# Altium footprint library PcbLib2.PcbLib: 24 footprints (part 1 of 2)
Each footprint in its own frame and in the unit in brackets; x right, y up, seen from the top. Pads: shape width x height; smd on the part's side, far side on the other; paste and mask are expansions set on the pad; w line width, h text height; cw(c..) or ccw(c..) is an arc to the next point about the centre after c.
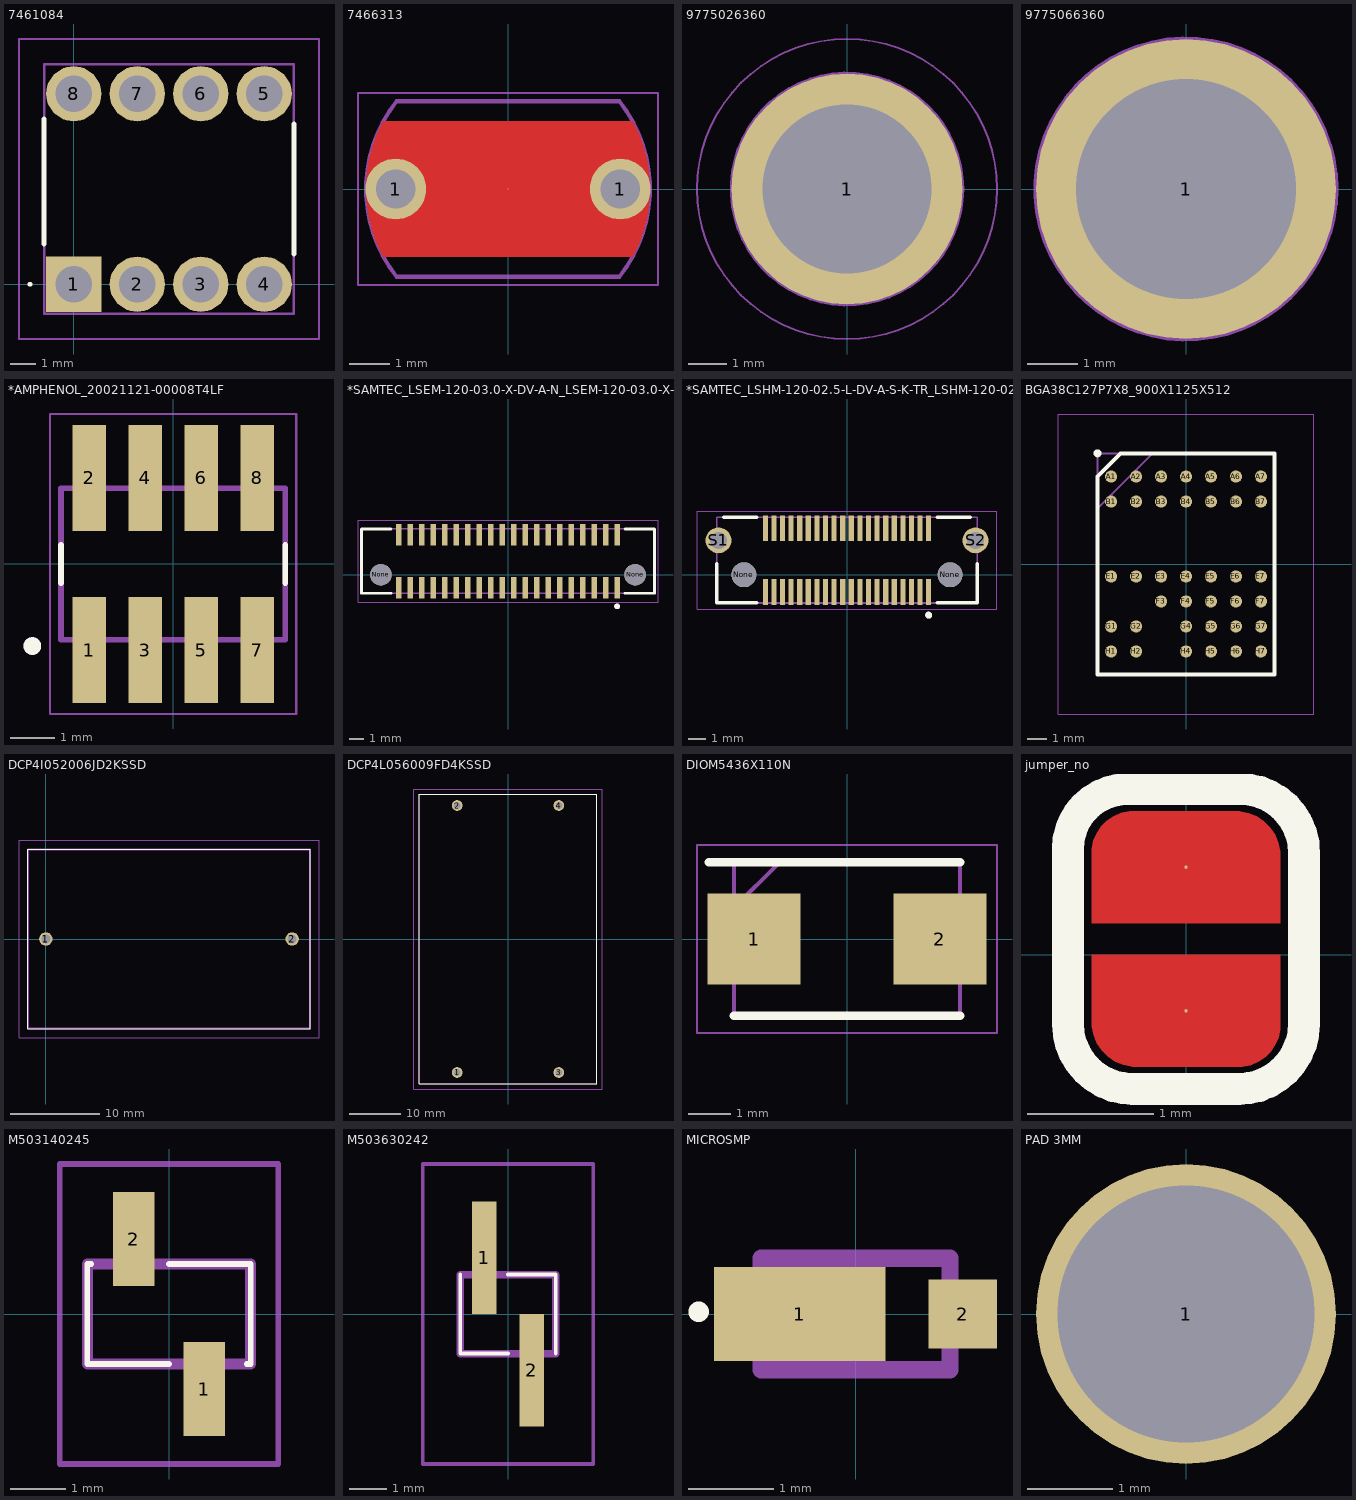
[diagram p0: the footprints below, top view; thin cyan lines are the x and y axes]

## 7461084 [mm]
height 3.6
pads (8):
  rect 2.213x2.213 hole 1.475: 1(0,0)
  round 2.213 hole 1.475: 2(2.54,0) 3(5.08,0) 4(7.62,0) 5(7.62,7.62) 6(5.08,7.62) 7(2.54,7.62) 8(0,7.62)
Top Overlay:
  lines w0.1: -1.8,0 ccw(c-1.75,0) -1.7,0 ccw(c-1.75,0) -1.8,0
  lines w0.2: -1.19,1.61 -1.19,6.61 ; 8.81,1.21 8.81,6.41
Top 3D Body:
  lines w0.1: -1.19,-1.19 8.81,-1.19 8.81,8.81 -1.19,8.81 -1.19,-1.19
Top Courtyard:
  lines w0.1: -2.19,-2.19 9.81,-2.19 9.81,9.81 -2.19,9.81 -2.19,-2.19
3D body "7461084.stp": height 12.86, standoff -4.14, extent -1.19,-1.19 8.81,8.81

## 7466313 [mm] "SMD Terminal Right Angled with Pins, Thread M3, Length 5.5mm"
height 7
pads (3):
  round 1.5 hole 0.97 paste-2539.97: 1(-2.77,0) 1(2.77,0)
  round 0.025 smd: 1(0,0)
Top Layer:
  region: -3.079,-1.665 3.079,-1.665 3.13,-1.569 3.221,-1.373 3.3,-1.17 3.366,-0.964 3.42,-0.753 3.46,-0.54 3.487,-0.325 3.5,-0.108 3.5,0.108 3.487,0.325 3.46,0.54 3.42,0.753 3.366,0.964 3.3,1.17 3.221,1.373 3.13,1.569 3.079,1.665 -3.079,1.665 -3.13,1.57 -3.221,1.373 -3.3,1.171 -3.366,0.964 -3.42,0.754 -3.46,0.54 -3.487,0.325 -3.5,0.109 -3.5,-0.108 -3.487,-0.325 -3.46,-0.54 -3.42,-0.754 -3.367,-0.964 -3.301,-1.171 -3.222,-1.373 -3.131,-1.57
Top Paste:
  region: -3.354,1 -2,1 -2,0.5 2,0.5 2,1 3.354,1 3.328,1.086 3.268,1.256 3.199,1.423 3.122,1.586 3.079,1.665 -3.079,1.665 -3.122,1.585 -3.199,1.423 -3.268,1.256 -3.328,1.086
  region: 3.354,-1 2,-1 2,-0.5 -2,-0.5 -2,-1 -3.354,-1 -3.328,-1.086 -3.268,-1.256 -3.199,-1.423 -3.122,-1.586 -3.079,-1.665 3.079,-1.665 3.122,-1.585 3.199,-1.423 3.268,-1.256 3.328,-1.086
Top 3D Body:
  lines w0.1: -2.75,-2.165 cw(c0,0) -2.75,2.165 2.75,2.165 cw(c0,0) 2.75,-2.165 -2.75,-2.165
Top Courtyard:
  lines w0.05: -0.5,0 0.5,0 ; 0,-0.5 0,0.5 ; -3.7,-2.365 -3.7,2.365 3.7,2.365 3.7,-2.365 -3.7,-2.365
Top Designator:
  text ".Designator" at -7.498,-0.5 h1.5
Top Component Outline:
  lines w0.1: -2.75,-2.165 cw(c0,0) -2.75,2.165 2.75,2.165 cw(c0,0) 2.75,-2.165 -2.75,-2.165
3D body "7466313.stp": height 7, standoff -1, extent -3.5,-2.165 3.5,2.165

## 9775026360 [mm] "SMD Steel Spacer M3 Thread Internal, Pin Length 2.6mm"
height 1
pads (1):
  round 6 / inner round 0 / far side round 0 hole 4.4 unplated paste-2539.97: 1(0,0)
Top Paste:
  region: 0.4,3.613 0.4,2.204 0.401,2.204 0.566,2.167 0.887,2.057 1.187,1.9 1.46,1.699 1.699,1.459 1.9,1.186 2.057,0.886 2.167,0.566 2.204,0.4 3.613,0.4 3.59,0.603 3.5,1.003 3.365,1.389 3.188,1.759 2.97,2.105 2.715,2.426 2.426,2.715 2.105,2.97 1.759,3.188 1.389,3.365 1.003,3.5 0.603,3.59
  region: 3.613,-0.4 2.204,-0.4 2.204,-0.401 2.167,-0.566 2.057,-0.887 1.9,-1.187 1.699,-1.46 1.459,-1.699 1.186,-1.9 0.886,-2.057 0.566,-2.167 0.4,-2.204 0.4,-3.613 0.603,-3.59 1.003,-3.5 1.389,-3.365 1.759,-3.188 2.105,-2.97 2.426,-2.715 2.715,-2.426 2.97,-2.105 3.188,-1.759 3.365,-1.389 3.5,-1.003 3.59,-0.603
  region: -0.4,-3.613 -0.4,-2.204 -0.401,-2.204 -0.566,-2.167 -0.887,-2.057 -1.187,-1.9 -1.46,-1.699 -1.699,-1.459 -1.9,-1.186 -2.057,-0.886 -2.167,-0.566 -2.204,-0.4 -3.613,-0.4 -3.59,-0.603 -3.5,-1.003 -3.365,-1.389 -3.188,-1.759 -2.97,-2.105 -2.715,-2.426 -2.426,-2.715 -2.105,-2.97 -1.759,-3.188 -1.389,-3.365 -1.003,-3.5 -0.603,-3.59
  region: -3.613,0.4 -2.204,0.4 -2.204,0.401 -2.167,0.566 -2.057,0.887 -1.9,1.187 -1.699,1.46 -1.459,1.699 -1.186,1.9 -0.886,2.057 -0.566,2.167 -0.4,2.204 -0.4,3.613 -0.603,3.59 -1.003,3.5 -1.389,3.365 -1.759,3.188 -2.105,2.97 -2.426,2.715 -2.715,2.426 -2.97,2.105 -3.188,1.759 -3.365,1.389 -3.5,1.003 -3.59,0.603
Top 3D Body:
  circle w0.1: c0,0 r3
Top Courtyard:
  circle w0.05: c0,0 r3.9
  lines w0.05: -0.5,0 0.5,0 ; 0,-0.5 0,0.5
Top Designator:
  text ".Designator" at -7.498,-0.5 h1.5
Top Component Outline:
  circle w0.1: c0,0 r3
3D body "9775026360.stp": height 1, standoff -2.6, extent -3,-3 3,3

## 9775066360 [mm] "SMD Steel Spacer M3 Thread Internal, Pin Length 6.6mm"
height 1
pads (1):
  round 6 / inner round 0 / far side round 0 hole 4.4 unplated paste-2539.97 mask+0: 1(0,0)
Top 3D Body:
  circle w0.1: c0,0 r3
Top Courtyard:
  lines w0.05: -0.5,0 0.5,0 ; 0,-0.5 0,0.5
Top Designator:
  text ".Designator" at -7.498,-0.5 h1.5
Top Component Outline:
  circle w0.1: c0,0 r3
3D body "9775066360.stp": height 1, standoff -6.6, extent -3,-3 3,3

## *AMPHENOL_20021121-00008T4LF [mm]
pads (8):
  rect 0.76x2.4 smd: 1(-1.905,-1.95) 2(-1.905,1.95) 3(-0.635,-1.95) 4(-0.635,1.95) 5(0.635,-1.95) 6(0.635,1.95) 7(1.905,-1.95) 8(1.905,1.95)
Top Overlay:
  circle w0.2: c-3.19,-1.86 r0.1
  lines w0.127: -2.54,-0.43 -2.54,0.43 ; 2.54,-0.43 2.54,0.43
Mechanical 4:
  circle w0.2: c-3.19,-1.86 r0.1
  circle w0.2: c-3.19,-1.86 r0.1
  lines w0.127: -2.54,-1.715 -2.54,1.715 ; -2.54,-1.715 2.54,-1.715 ; -2.54,-1.715 -2.54,1.715 ; -2.54,-1.715 2.54,-1.715 ; -2.54,1.715 2.54,1.715 ; -2.54,1.715 2.54,1.715 ; 2.54,-1.715 2.54,1.715 ; 2.54,-1.715 2.54,1.715
Mechanical 16:
  lines w0.05: -2.79,-3.4 -2.79,3.4 2.79,3.4 2.79,-3.4 -2.79,-3.4
3D body "20021121-00008T4LF.STEP": height 4.55, standoff 0, extent -2.54,-2.75 2.54,2.75

## *SAMTEC_LSEM-120-03.0-X-DV-A-N_LSEM-120-03.0-X-DV-A-N(Primary) - duplicate [mm]
pads (42):
  rect 0.38x1.5 smd: 01(7.6,-0.9) 02(7.6,2.8) 03(6.8,-0.9) 04(6.8,2.8) 05(6,-0.9) 06(6,2.8) 07(5.2,-0.9) 08(5.2,2.8) 09(4.4,-0.9) 10(4.4,2.8) 11(3.6,-0.9) 12(3.6,2.8) 13(2.8,-0.9) 14(2.8,2.8) 15(2,-0.9) 16(2,2.8) 17(1.2,-0.9) 18(1.2,2.8) 19(0.4,-0.9) 20(0.4,2.8) 21(-0.4,-0.9) 22(-0.4,2.8) 23(-1.2,-0.9) 24(-1.2,2.8) 25(-2,-0.9) 26(-2,2.8) 27(-2.8,-0.9) 28(-2.8,2.8) 29(-3.6,-0.9) 30(-3.6,2.8) 31(-4.4,-0.9) 32(-4.4,2.8) 33(-5.2,-0.9) 34(-5.2,2.8) 35(-6,-0.9) 36(-6,2.8) 37(-6.8,-0.9) 38(-6.8,2.8) 39(-7.6,-0.9) 40(-7.6,2.8)
  round 1.5 hole 1.5 unplated: None(-8.85,0) None(8.85,0)
Top Overlay:
  circle w0.2: c7.6,-2.2 r0.1
  lines w0.2: -8.14,-1.29 -10.2,-1.29 -10.2,3.19 -8.14,3.19 ; 8.14,-1.29 10.2,-1.29 10.2,3.19 8.14,3.19
Mechanical 13:
  circle w0.2: c7.6,-2.2 r0.1
  circle w0.2: c7.6,-2.2 r0.1
  lines w0.1: -10.2,-1.29 -10.2,3.19 ; -10.2,-1.29 10.2,-1.29 ; -10.2,-1.29 -10.2,3.19 ; -10.2,-1.29 10.2,-1.29 ; -10.2,3.19 10.2,3.19 ; -10.2,3.19 10.2,3.19 ; 10.2,-1.29 10.2,3.19 ; 10.2,-1.29 10.2,3.19
Mechanical 16:
  lines w0.05: -10.45,-1.9 -10.45,3.8 10.45,3.8 10.45,-1.9 -10.45,-1.9
3D body "LSEM-120-03_0-L-DV-A-N-K-TR.stp": height 4.45, standoff -0.98, extent -10.3,-1.797 10.2,3.697

## *SAMTEC_LSHM-120-02.5-L-DV-A-S-K-TR_LSHM-120-02.5-L-DV-A-S-K-TR(Primary) [mm]
pads (44):
  rect 0.3x1.5 smd: 01(4.75,-1) 02(4.75,2.7) 03(4.25,-1) 04(4.25,2.7) 05(3.75,-1) 06(3.75,2.7) 07(3.25,-1) 08(3.25,2.7) 09(2.75,-1) 10(2.75,2.7) 11(2.25,-1) 12(2.25,2.7) 13(1.75,-1) 14(1.75,2.7) 15(1.25,-1) 16(1.25,2.7) 17(0.75,-1) 18(0.75,2.7) 19(0.25,-1) 20(0.25,2.7) 21(-0.25,-1) 22(-0.25,2.7) 23(-0.75,-1) 24(-0.75,2.7) 25(-1.25,-1) 26(-1.25,2.7) 27(-1.75,-1) 28(-1.75,2.7) 29(-2.25,-1) 30(-2.25,2.7) 31(-2.75,-1) 32(-2.75,2.7) 33(-3.25,-1) 34(-3.25,2.7) 35(-3.75,-1) 36(-3.75,2.7) 37(-4.25,-1) 38(-4.25,2.7) 39(-4.75,-1) 40(-4.75,2.7)
  round 1.45 hole 1.45 unplated: None(-6,0) None(6,0)
  round 1.5 hole 1: S1(-7.475,2) S2(7.475,2)
Top Overlay:
  circle w0.2: c4.75,-2.35 r0.1
  lines w0.2: -7.575,0.65 -7.575,-1.64 -5.25,-1.64 ; -7.175,3.34 -5.25,3.34 ; 5.25,-1.64 7.575,-1.64 7.575,0.65 ; 5.25,3.34 7.175,3.34
Top Paste:
  circle w1: c-7.475,2 r0.5
  circle w1: c7.475,2 r0.5
Mechanical 4:
  circle w0.2: c4.75,-2.35 r0.1
  circle w0.2: c4.75,-2.35 r0.1
  lines w0.1: -7.575,-1.64 7.575,-1.64 ; -7.575,-1.64 -7.575,3.34 ; -7.575,-1.64 7.575,-1.64 ; -7.575,-1.64 -7.575,3.34 ; -7.575,3.34 7.575,3.34 ; -7.575,3.34 7.575,3.34 ; 7.575,-1.64 7.575,3.34 ; 7.575,-1.64 7.575,3.34
Mechanical 16:
  lines w0.05: -8.725,-2 8.725,-2 8.725,3.7 -8.725,3.7 -8.725,-2
3D body "LSHM-120-02_5-L-DV-A-S-K-TR.stp": height 3.95, standoff -1.8, extent -7.901,-1.601 7.901,3.429

## BGA38C127P7X8_900X1125X512 [mm]
pads (38):
  round 0.612 smd: A1(-3.81,4.445) A2(-2.54,4.445) A3(-1.27,4.445) A4(0,4.445) A5(1.27,4.445) A6(2.54,4.445) A7(3.81,4.445) B1(-3.81,3.175) B2(-2.54,3.175) B3(-1.27,3.175) B4(0,3.175) B5(1.27,3.175) B6(2.54,3.175) B7(3.81,3.175) E1(-3.81,-0.635) E2(-2.54,-0.635) E3(-1.27,-0.635) E4(0,-0.635) E5(1.27,-0.635) E6(2.54,-0.635) E7(3.81,-0.635) F3(-1.27,-1.905) F4(0,-1.905) F5(1.27,-1.905) F6(2.54,-1.905) F7(3.81,-1.905) G1(-3.81,-3.175) G2(-2.54,-3.175) G4(0,-3.175) G5(1.27,-3.175) G6(2.54,-3.175) G7(3.81,-3.175) H1(-3.81,-4.445) H2(-2.54,-4.445) H4(0,-4.445) H5(1.27,-4.445) H6(2.54,-4.445) H7(3.81,-4.445)
Top Overlay:
  circle w0.2: c-4.5,5.625 r0.1
  lines w0.2: -4.5,-5.625 4.5,-5.625 4.5,5.625 -3.32,5.625 -4.5,4.445 -4.5,-5.625
Mechanical 13:
  lines w0.1: -4.5,2.812 -1.688,5.624 ; -4.5,-5.625 4.5,-5.625 4.5,5.625 -4.5,5.625 -4.5,-5.625
Mechanical 15:
  lines w0.05: -6.5,-7.625 6.5,-7.625 6.5,7.625 -6.5,7.625 -6.5,-7.625
3D body "LTM8067IY#PBF.stp": height 5.13, standoff 0, extent -4.496,-5.626 4.496,5.626

## DCP4I052006JD2KSSD [mm]
pads (2):
  round 1.5 hole 1: 1(0,0) 2(27.5,0)
Top Overlay:
  lines w0.1: -2,-10 29.5,-10 29.5,10 -2,10 -2,-10
Mechanical 13:
  lines w0.2: -2,-10 29.5,-10 29.5,10 -2,10 -2,-10
Mechanical 15:
  lines w0.1: -3,-11 30.5,-11 30.5,11 -3,11 -3,-11
3D body "DCP4I052006JD2KSSD.stp": height 39.6, standoff -5, extent -2,-10 29.5,10

## DCP4L056009FD4KSSD [mm]
pads (4):
  round 2.1 hole 1.4: 1(-10,-26.25) 2(-10,26.25) 3(10,-26.25) 4(10,26.25)
Top Overlay:
  lines w0.1: -8,-28.5 8,-28.5 ; -8,28.5 8,28.5 ; -17.5,-28.5 -17.5,28.5 0,28.5 17.5,28.5 17.5,-28.5 0,-28.5 -17.5,-28.5
Mechanical 13:
  lines w0.2: -17.5,-28.5 17.5,-28.5 17.5,28.5 -17.5,28.5 -17.5,-28.5
Mechanical 15:
  lines w0.1: -18.5,-29.5 18.5,-29.5 18.5,29.5 -18.5,29.5 -18.5,-29.5
3D body "DCP4L056009FD4KSSD.stp": height 50.1, standoff -5, extent -17.5,-28.5 17.5,28.5

## DIOM5436X110N [mm]
pads (2):
  rect 2.2x2.15 smd: 1(-2.2,0) 2(2.2,0)
Top Overlay:
  lines w0.2: -3.275,1.812 2.675,1.812 ; -2.675,-1.812 2.675,-1.812
Mechanical 13:
  lines w0.1: -2.675,0.738 -1.6,1.812 ; -2.675,-1.812 -2.675,1.812 2.675,1.812 2.675,-1.812 -2.675,-1.812
Mechanical 15:
  lines w0.05: -3.55,-2.225 -3.55,2.225 3.55,2.225 3.55,-2.225 -3.55,-2.225
3D body "STTH112UFY.stp": height 1.1, standoff 0, extent -2.675,-1.813 2.675,1.813

## jumper_no [mil]
pads (2):
  round 1 smd: 1(0,27.5) 2(0,-17.5)
Top Layer:
  region: 29.5,10 -29.5,10 -29.5,32 -29.5,33.28 -29,35.79 -28.02,38.16 -26.6,40.29 -24.79,42.1 -22.66,43.52 -20.29,44.5 -17.78,45 -16.5,45 15.5,45 16.88,45 19.58,44.46 22.13,43.41 24.42,41.87 26.37,39.92 27.91,37.63 28.96,35.08 29.5,32.38 29.5,31
  region: -29.5,0 29.5,0 29.5,-22 29.5,-23.28 29,-25.79 28.02,-28.16 26.6,-30.29 24.79,-32.1 22.66,-33.52 20.29,-34.5 17.78,-35 16.5,-35 -15.5,-35 -16.88,-35 -19.58,-34.46 -22.13,-33.41 -24.42,-31.87 -26.37,-29.92 -27.91,-27.63 -28.96,-25.08 -29.5,-22.38 -29.5,-21
Top Overlay:
  lines w10: -37,5 -37,-21.63 ccw(c-16.63,-21.63) -16.63,-42 16.51,-42 ccw(c16.51,-21.51) 37,-21.51 37,32 ccw(c17,32) 17,52 -18.25,52 ccw(c-18.25,33.25) -37,33.25 -37,6

## M503140245 [mm]
pads (2):
  rect 0.74x1.7 smd: 1(0.635,-1.35) 2(-0.635,1.35)
Top Overlay:
  lines w0.1: -1.4,0.9 -1.47,0.9 -1.47,-0.9 0,-0.9 ; 0,0.9 1.47,0.9 1.47,-0.9 1.4,-0.9
Mechanical 13:
  lines w0.2: -1.47,-0.9 -1.47,0.9 1.47,0.9 1.47,-0.9 -1.47,-0.9
Mechanical 15:
  lines w0.1: -1.97,-2.7 -1.97,2.7 1.97,2.7 1.97,-2.7 -1.97,-2.7
3D body "M50-3140245.stp": height 3.6, standoff 0, extent -1.47,-1.598 1.47,1.598

## M503630242 [mm]
pads (2):
  rect 0.65x3 smd: 1(-0.635,1.5) 2(0.635,-1.5)
Top Overlay:
  lines w0.1: -1.27,1.05 -1.27,-1.055 0,-1.055 ; 0,1.05 1.27,1.05 1.27,-1.055
Mechanical 13:
  lines w0.2: -1.27,-1.055 1.27,-1.055 1.27,1.05 -1.27,1.05 -1.27,-1.055
Mechanical 15:
  lines w0.1: -2.27,-4 2.27,-4 2.27,4 -2.27,4 -2.27,-4
3D body "M50-3630242.stp": height 4.5, standoff 0, extent -1.27,-2.5 1.27,2.5

## MICROSMP [mm]
pads (2):
  rect 2x1.1 smd: 1(-0.65,0)
  rect 0.8x0.8 smd: 2(1.25,0)
Top Overlay:
  circle w0.2: c-1.831,0.026 r0.019
Mechanical 13:
  lines w0.2: -1.1,-0.65 1.1,-0.65 1.1,0.65 -1.1,0.65 -1.1,-0.65
3D body "MSS1P4-M3_89A.stp": height 0.68, standoff 0, extent -1.2,-0.648 1.3,0.652

## PAD 3MM [mm]
pads (1):
  round 3.5 hole 3 paste+0 mask+0.2: 1(0,0)